# Altium schematic symbol library 5003.SchLib: 1 symbol
Pins are listed as number, name and electrical type; pins without a type are passive.

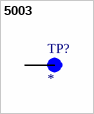
[diagram p0: symbol 5003]

## 5003
designator TP?
Test Point Miniature THM H .300 Nylon 46 Insulated Orange PhosBronze/Silver | Keystone Electronics 5003; MF: Keystone Electronics Corp.; MP: 5003; SnapEDA_Link: https://www.snapeda.com/parts/5003/Keystone/view-part/?ref=snap; Package: None; Value: *; Check_prices: https://www.snapeda.com/parts/5003/Keystone/view-part/?ref=eda
footprint KEYSTONE_5003
pins: TP